# Altium footprint library can_5_1.PcbLib: 1 footprints
Each footprint in its own frame and in the unit in brackets; x right, y up, seen from the top. Pads: shape width x height; smd on the part's side, far side on the other; paste and mask are expansions set on the pad; w line width, h text height; cw(c..) or ccw(c..) is an arc to the next point about the centre after c.
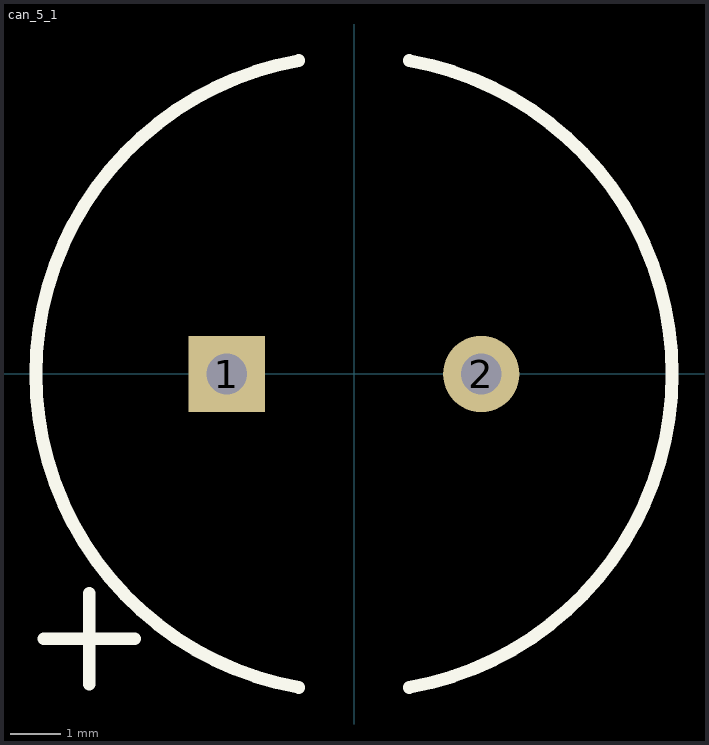
[diagram p0: the footprint, top view; thin cyan lines are the x and y axes]

## can_5_1 [mm] "2 Leaded Al Cap, 5mm spacing, 12.5mm diameter"
height 20
pads (2):
  rect 1.5x1.5 hole 0.8: 1(-2.5,0)
  round 1.5 hole 0.8: 2(2.5,0)
Top Overlay:
  lines w0.254: -6.089,-5.2 -4.311,-5.2 ; -5.2,-6.089 -5.2,-4.311 ; -1.085,-6.155 cw(c0,0) -1.085,6.155 ; 1.085,-6.155 ccw(c0,0) 1.085,6.155
3D body: height 12.5, standoff 0, extent -6.25,-6.247 6.25,6.247